# Altium footprint library Microcontroller megaAVR.PcbLib: 70 footprints (part 4 of 5)
Each footprint in its own frame and in the unit in brackets; x right, y up, seen from the top. Pads: shape width x height; smd on the part's side, far side on the other; paste and mask are expansions set on the pad; w line width, h text height; cw(c..) or ccw(c..) is an arc to the next point about the centre after c.
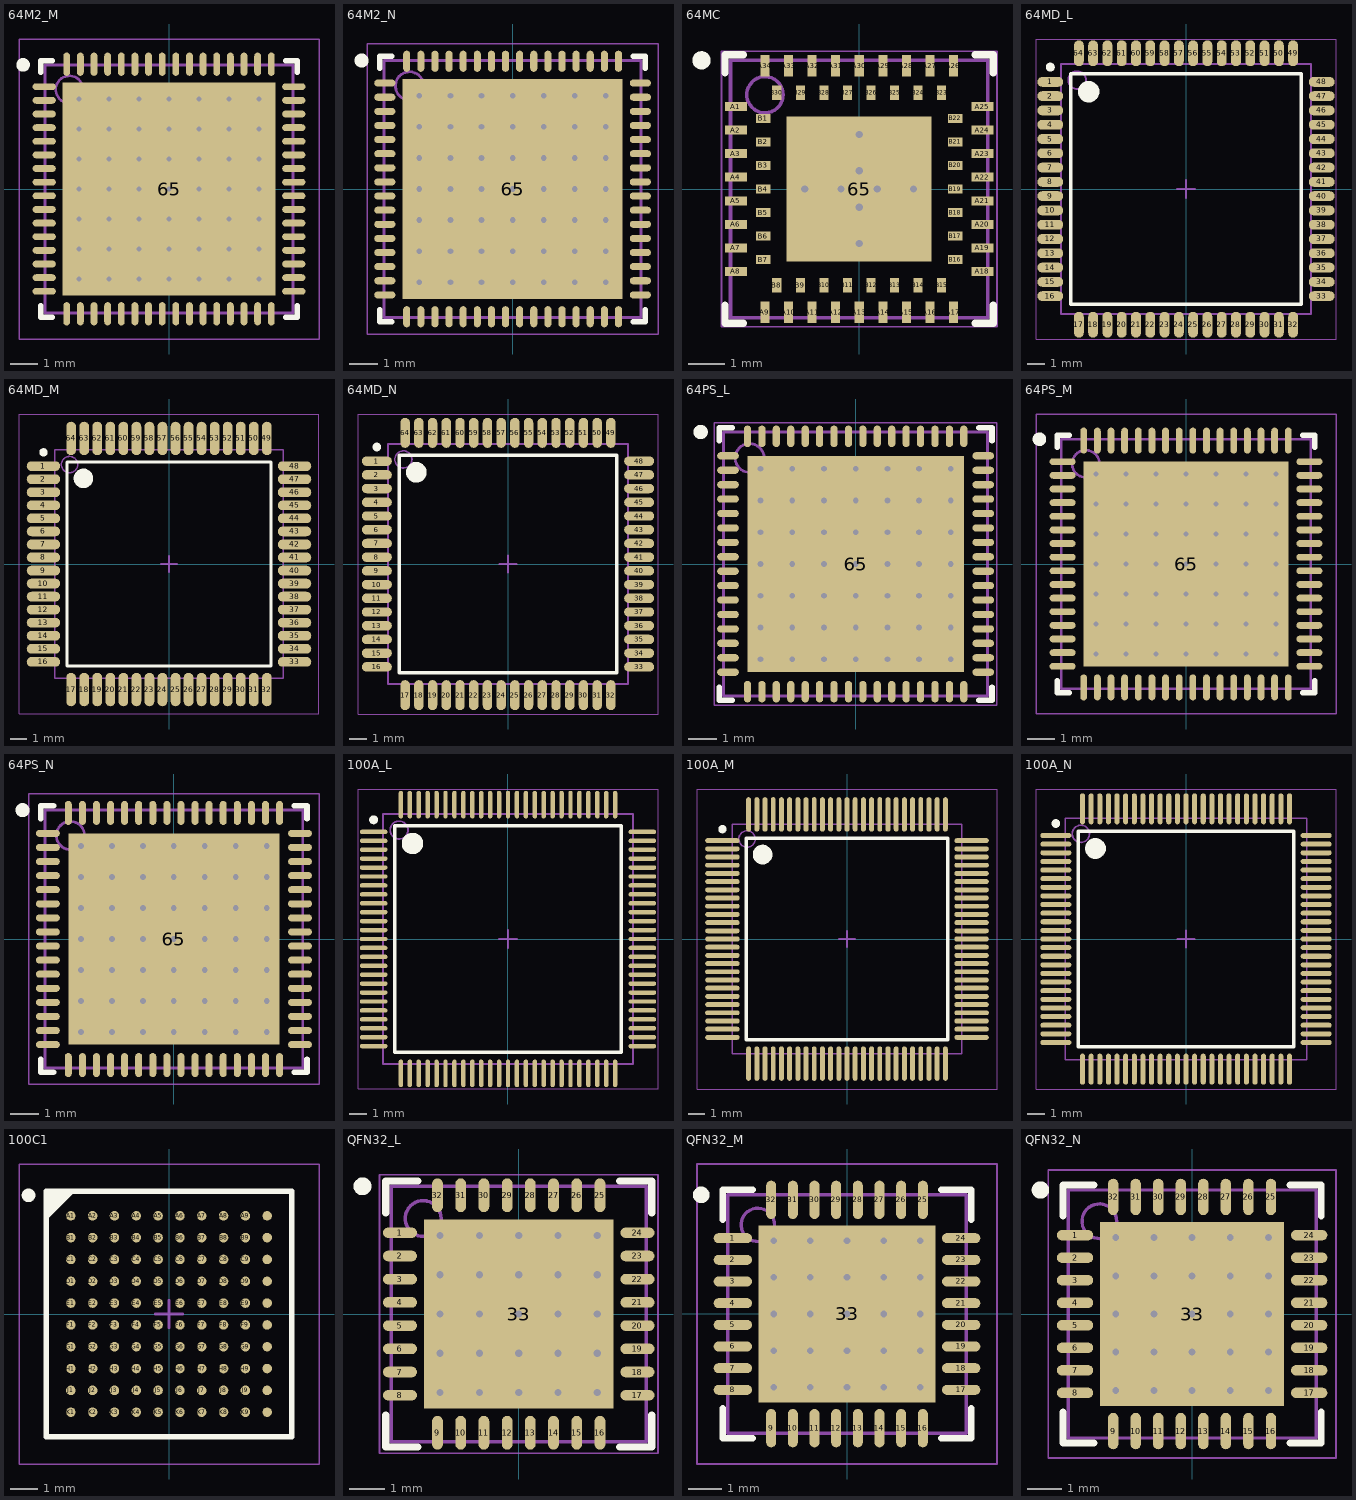
[diagram p3: the footprints below, top view; thin cyan lines are the x and y axes]

## 64M2_M [mm] "QFN, 64-Leads, Body 9x9mm, Pitch 0.5mm, Thermal Pad 7.8x7.8mm, IPC Low Density"
height 1
pads (65):
  oval 0.85x0.25 smd: 1(-4.575,3.75) 2(-4.575,3.25) 3(-4.575,2.75) 4(-4.575,2.25) 5(-4.575,1.75) 6(-4.575,1.25) 7(-4.575,0.75) 8(-4.575,0.25) 9(-4.575,-0.25) 10(-4.575,-0.75) 11(-4.575,-1.25) 12(-4.575,-1.75) 13(-4.575,-2.25) 14(-4.575,-2.75) 15(-4.575,-3.25) 16(-4.575,-3.75) 33(4.575,-3.75) 34(4.575,-3.25) 35(4.575,-2.75) 36(4.575,-2.25) 37(4.575,-1.75) 38(4.575,-1.25) 39(4.575,-0.75) 40(4.575,-0.25) 41(4.575,0.25) 42(4.575,0.75) 43(4.575,1.25) 44(4.575,1.75) 45(4.575,2.25) 46(4.575,2.75) 47(4.575,3.25) 48(4.575,3.75)
  oval 0.25x0.85 smd: 17(-3.75,-4.575) 18(-3.25,-4.575) 19(-2.75,-4.575) 20(-2.25,-4.575) 21(-1.75,-4.575) 22(-1.25,-4.575) 23(-0.75,-4.575) 24(-0.25,-4.575) 25(0.25,-4.575) 26(0.75,-4.575) 27(1.25,-4.575) 28(1.75,-4.575) 29(2.25,-4.575) 30(2.75,-4.575) 31(3.25,-4.575) 32(3.75,-4.575) 49(3.75,4.575) 50(3.25,4.575) 51(2.75,4.575) 52(2.25,4.575) 53(1.75,4.575) 54(1.25,4.575) 55(0.75,4.575) 56(0.25,4.575) 57(-0.25,4.575) 58(-0.75,4.575) 59(-1.25,4.575) 60(-1.75,4.575) 61(-2.25,4.575) 62(-2.75,4.575) 63(-3.25,4.575) 64(-3.75,4.575)
  rect 7.8x7.8 smd: 65(0,0)
via -3.3,3.3 diameter 0.5 hole 0.2
via -2.2,3.3 diameter 0.5 hole 0.2
via -1.1,3.3 diameter 0.5 hole 0.2
via 0,3.3 diameter 0.5 hole 0.2
via 1.1,3.3 diameter 0.5 hole 0.2
via 2.2,3.3 diameter 0.5 hole 0.2
via 3.3,3.3 diameter 0.5 hole 0.2
via -3.3,2.2 diameter 0.5 hole 0.2
via -2.2,2.2 diameter 0.5 hole 0.2
via -1.1,2.2 diameter 0.5 hole 0.2
via 0,2.2 diameter 0.5 hole 0.2
via 1.1,2.2 diameter 0.5 hole 0.2
via 2.2,2.2 diameter 0.5 hole 0.2
via 3.3,2.2 diameter 0.5 hole 0.2
via -3.3,1.1 diameter 0.5 hole 0.2
via -2.2,1.1 diameter 0.5 hole 0.2
via -1.1,1.1 diameter 0.5 hole 0.2
via 0,1.1 diameter 0.5 hole 0.2
via 1.1,1.1 diameter 0.5 hole 0.2
via 2.2,1.1 diameter 0.5 hole 0.2
via 3.3,1.1 diameter 0.5 hole 0.2
via -3.3,0 diameter 0.5 hole 0.2
via -2.2,0 diameter 0.5 hole 0.2
via -1.1,0 diameter 0.5 hole 0.2
via 0,0 diameter 0.5 hole 0.2
via 1.1,0 diameter 0.5 hole 0.2
via 2.2,0 diameter 0.5 hole 0.2
via 3.3,0 diameter 0.5 hole 0.2
via -3.3,-1.1 diameter 0.5 hole 0.2
via -2.2,-1.1 diameter 0.5 hole 0.2
via -1.1,-1.1 diameter 0.5 hole 0.2
via 0,-1.1 diameter 0.5 hole 0.2
via 1.1,-1.1 diameter 0.5 hole 0.2
via 2.2,-1.1 diameter 0.5 hole 0.2
via 3.3,-1.1 diameter 0.5 hole 0.2
via -3.3,-2.2 diameter 0.5 hole 0.2
via -2.2,-2.2 diameter 0.5 hole 0.2
via -1.1,-2.2 diameter 0.5 hole 0.2
via 0,-2.2 diameter 0.5 hole 0.2
via 1.1,-2.2 diameter 0.5 hole 0.2
via 2.2,-2.2 diameter 0.5 hole 0.2
via 3.3,-2.2 diameter 0.5 hole 0.2
via -3.3,-3.3 diameter 0.5 hole 0.2
via -2.2,-3.3 diameter 0.5 hole 0.2
via -1.1,-3.3 diameter 0.5 hole 0.2
via 0,-3.3 diameter 0.5 hole 0.2
via 1.1,-3.3 diameter 0.5 hole 0.2
via 2.2,-3.3 diameter 0.5 hole 0.2
via 3.3,-3.3 diameter 0.5 hole 0.2
Top Overlay:
  circle w0.25: c-5.35,4.55 r0.125
  lines w0.2: -4.7,-4.275 -4.7,-4.7 -4.275,-4.7 ; -4.7,4.275 -4.7,4.7 -4.275,4.7 ; 4.275,-4.7 4.7,-4.7 4.7,-4.275 ; 4.275,4.7 4.7,4.7 4.7,4.275
Mechanical 13:
  circle w0.1: c-3.65,3.65 r0.5
  lines w0.1: -4.55,-4.55 -4.55,4.55 4.55,4.55 4.55,-4.55 -4.55,-4.55
Mechanical 15:
  lines w0.05: -5.5,-5.5 -5.5,5.5 5.5,5.5 5.5,-5.5 -5.5,-5.5
  lines w0.1: -0.5,0 0.5,0 ; 0,-0.5 0,0.5
3D body: height 1, standoff 0, extent -4.55,-4.55 4.55,4.55

## 64M2_N [mm] "QFN, 64-Leads, Body 9x9mm, Pitch 0.5mm, Thermal Pad 7.8x7.8mm, IPC Medium Density"
height 1
pads (65):
  oval 0.75x0.25 smd: 1(-4.525,3.75) 2(-4.525,3.25) 3(-4.525,2.75) 4(-4.525,2.25) 5(-4.525,1.75) 6(-4.525,1.25) 7(-4.525,0.75) 8(-4.525,0.25) 9(-4.525,-0.25) 10(-4.525,-0.75) 11(-4.525,-1.25) 12(-4.525,-1.75) 13(-4.525,-2.25) 14(-4.525,-2.75) 15(-4.525,-3.25) 16(-4.525,-3.75) 33(4.525,-3.75) 34(4.525,-3.25) 35(4.525,-2.75) 36(4.525,-2.25) 37(4.525,-1.75) 38(4.525,-1.25) 39(4.525,-0.75) 40(4.525,-0.25) 41(4.525,0.25) 42(4.525,0.75) 43(4.525,1.25) 44(4.525,1.75) 45(4.525,2.25) 46(4.525,2.75) 47(4.525,3.25) 48(4.525,3.75)
  oval 0.25x0.75 smd: 17(-3.75,-4.525) 18(-3.25,-4.525) 19(-2.75,-4.525) 20(-2.25,-4.525) 21(-1.75,-4.525) 22(-1.25,-4.525) 23(-0.75,-4.525) 24(-0.25,-4.525) 25(0.25,-4.525) 26(0.75,-4.525) 27(1.25,-4.525) 28(1.75,-4.525) 29(2.25,-4.525) 30(2.75,-4.525) 31(3.25,-4.525) 32(3.75,-4.525) 49(3.75,4.525) 50(3.25,4.525) 51(2.75,4.525) 52(2.25,4.525) 53(1.75,4.525) 54(1.25,4.525) 55(0.75,4.525) 56(0.25,4.525) 57(-0.25,4.525) 58(-0.75,4.525) 59(-1.25,4.525) 60(-1.75,4.525) 61(-2.25,4.525) 62(-2.75,4.525) 63(-3.25,4.525) 64(-3.75,4.525)
  rect 7.8x7.8 smd: 65(0,0)
via -3.3,3.3 diameter 0.5 hole 0.2
via -2.2,3.3 diameter 0.5 hole 0.2
via -1.1,3.3 diameter 0.5 hole 0.2
via 0,3.3 diameter 0.5 hole 0.2
via 1.1,3.3 diameter 0.5 hole 0.2
via 2.2,3.3 diameter 0.5 hole 0.2
via 3.3,3.3 diameter 0.5 hole 0.2
via -3.3,2.2 diameter 0.5 hole 0.2
via -2.2,2.2 diameter 0.5 hole 0.2
via -1.1,2.2 diameter 0.5 hole 0.2
via 0,2.2 diameter 0.5 hole 0.2
via 1.1,2.2 diameter 0.5 hole 0.2
via 2.2,2.2 diameter 0.5 hole 0.2
via 3.3,2.2 diameter 0.5 hole 0.2
via -3.3,1.1 diameter 0.5 hole 0.2
via -2.2,1.1 diameter 0.5 hole 0.2
via -1.1,1.1 diameter 0.5 hole 0.2
via 0,1.1 diameter 0.5 hole 0.2
via 1.1,1.1 diameter 0.5 hole 0.2
via 2.2,1.1 diameter 0.5 hole 0.2
via 3.3,1.1 diameter 0.5 hole 0.2
via -3.3,0 diameter 0.5 hole 0.2
via -2.2,0 diameter 0.5 hole 0.2
via -1.1,0 diameter 0.5 hole 0.2
via 0,0 diameter 0.5 hole 0.2
via 1.1,0 diameter 0.5 hole 0.2
via 2.2,0 diameter 0.5 hole 0.2
via 3.3,0 diameter 0.5 hole 0.2
via -3.3,-1.1 diameter 0.5 hole 0.2
via -2.2,-1.1 diameter 0.5 hole 0.2
via -1.1,-1.1 diameter 0.5 hole 0.2
via 0,-1.1 diameter 0.5 hole 0.2
via 1.1,-1.1 diameter 0.5 hole 0.2
via 2.2,-1.1 diameter 0.5 hole 0.2
via 3.3,-1.1 diameter 0.5 hole 0.2
via -3.3,-2.2 diameter 0.5 hole 0.2
via -2.2,-2.2 diameter 0.5 hole 0.2
via -1.1,-2.2 diameter 0.5 hole 0.2
via 0,-2.2 diameter 0.5 hole 0.2
via 1.1,-2.2 diameter 0.5 hole 0.2
via 2.2,-2.2 diameter 0.5 hole 0.2
via 3.3,-2.2 diameter 0.5 hole 0.2
via -3.3,-3.3 diameter 0.5 hole 0.2
via -2.2,-3.3 diameter 0.5 hole 0.2
via -1.1,-3.3 diameter 0.5 hole 0.2
via 0,-3.3 diameter 0.5 hole 0.2
via 1.1,-3.3 diameter 0.5 hole 0.2
via 2.2,-3.3 diameter 0.5 hole 0.2
via 3.3,-3.3 diameter 0.5 hole 0.2
Top Overlay:
  circle w0.25: c-5.35,4.55 r0.125
  lines w0.2: -4.7,-4.275 -4.7,-4.7 -4.275,-4.7 ; -4.7,4.275 -4.7,4.7 -4.275,4.7 ; 4.275,-4.7 4.7,-4.7 4.7,-4.275 ; 4.275,4.7 4.7,4.7 4.7,4.275
Mechanical 13:
  circle w0.1: c-3.65,3.65 r0.5
  lines w0.1: -4.55,-4.55 -4.55,4.55 4.55,4.55 4.55,-4.55 -4.55,-4.55
Mechanical 15:
  lines w0.05: -5.15,-5.15 -5.15,5.15 5.15,5.15 5.15,-5.15 -5.15,-5.15
  lines w0.1: -0.5,0 0.5,0 ; 0,-0.5 0,0.5
3D body: height 1, standoff 0, extent -4.55,-4.55 4.55,4.55

## 64MC [mm] "QFN, 64-Leads, 2-Rows Staggered, Body 7x7mm, Pitch 0.65mm, Thermal Pad 4x4mm"
height 1
pads (65):
  rect 4x4 smd paste-2 mask+0.051: 65(0,0)
  rect 0.6x0.25 smd paste-0.125 mask+0.051: A1(-3.4,2.275) A2(-3.4,1.625) A3(-3.4,0.975) A4(-3.4,0.325) A5(-3.4,-0.325) A6(-3.4,-0.975) A7(-3.4,-1.625) A8(-3.4,-2.275) A18(3.4,-2.275) A19(3.4,-1.625) A20(3.4,-0.975) A21(3.4,-0.325) A22(3.4,0.325) A23(3.4,0.975) A24(3.4,1.625) A25(3.4,2.275)
  rect 0.25x0.6 smd paste-0.125 mask+0.051: A9(-2.6,-3.4) A10(-1.95,-3.4) A11(-1.3,-3.4) A12(-0.65,-3.4) A13(0,-3.4) A14(0.65,-3.4) A15(1.3,-3.4) A16(1.95,-3.4) A17(2.6,-3.4) A26(2.6,3.4) A27(1.95,3.4) A28(1.3,3.4) A29(0.65,3.4) A30(0,3.4) A31(-0.65,3.4) A32(-1.3,3.4) A33(-1.95,3.4) A34(-2.6,3.4)
  rect 0.4x0.25 smd mask+0.051: B1(-2.65,1.95) B2(-2.65,1.3) B3(-2.65,0.65) B4(-2.65,0) B5(-2.65,-0.65) B6(-2.65,-1.3) B7(-2.65,-1.95) B16(2.65,-1.95) B17(2.65,-1.3) B18(2.65,-0.65) B19(2.65,0) B20(2.65,0.65) B21(2.65,1.3) B22(2.65,1.95)
  rect 0.25x0.4 smd mask+0.051: B8(-2.275,-2.65) B9(-1.625,-2.65) B10(-0.975,-2.65) B11(-0.325,-2.65) B12(0.325,-2.65) B13(0.975,-2.65) B14(1.625,-2.65) B15(2.275,-2.65) B23(2.275,2.65) B24(1.625,2.65) B25(0.975,2.65) B26(0.325,2.65) B27(-0.325,2.65) B28(-0.975,2.65) B29(-1.625,2.65) B30(-2.275,2.65)
via 0,0.5 diameter 0.5 hole 0.2
via 0,-0.5 diameter 0.5 hole 0.2
via 0.5,0 diameter 0.5 hole 0.2
via -0.5,0 diameter 0.5 hole 0.2
via 1.5,0 diameter 0.5 hole 0.2
via 0,1.5 diameter 0.5 hole 0.2
via 0,-1.5 diameter 0.5 hole 0.2
via -1.5,0 diameter 0.5 hole 0.2
Top Overlay:
  circle w0.25: c-4.35,3.55 r0.125
  lines w0.2: -3.7,-3.2 -3.7,-3.7 -3.2,-3.7 ; -3.7,3.2 -3.7,3.7 -3.2,3.7 ; 3.2,-3.7 3.7,-3.7 3.7,-3.2 ; 3.2,3.7 3.7,3.7 3.7,3.2
Top Paste:
  region: 2.475,3.8 2.475,3.1 2.725,3.1 2.725,3.8
  region: 2.725,-3.8 2.725,-3.1 2.475,-3.1 2.475,-3.8
  rectangle: 0.1,-1.9 1.9,-0.1
  region: -0.1,-0.1 -1.9,-0.1 -1.9,-1.9 -0.1,-1.9
  region: -0.1,1.9 -1.9,1.9 -1.9,0.1 -0.1,0.1
  rectangle: 0.1,0.1 1.9,1.9
  rectangle: -3.8,2.15 -3.1,2.4
  rectangle: -3.8,1.5 -3.1,1.75
  rectangle: -3.8,0.85 -3.1,1.1
  rectangle: -3.8,0.2 -3.1,0.45
  rectangle: -3.8,-0.45 -3.1,-0.2
  rectangle: -3.8,-1.1 -3.1,-0.85
  rectangle: -3.8,-1.75 -3.1,-1.5
  rectangle: -3.8,-2.4 -3.1,-2.15
  region: 2.075,-3.8 2.075,-3.1 1.825,-3.1 1.825,-3.8
  region: 1.425,-3.8 1.425,-3.1 1.175,-3.1 1.175,-3.8
  region: 0.775,-3.8 0.775,-3.1 0.525,-3.1 0.525,-3.8
  region: 0.125,-3.8 0.125,-3.1 -0.125,-3.1 -0.125,-3.8
  region: -0.525,-3.8 -0.525,-3.1 -0.775,-3.1 -0.775,-3.8
  region: -1.175,-3.8 -1.175,-3.1 -1.425,-3.1 -1.425,-3.8
  region: -1.825,-3.8 -1.825,-3.1 -2.075,-3.1 -2.075,-3.8
  region: -2.475,-3.8 -2.475,-3.1 -2.725,-3.1 -2.725,-3.8
  region: 3.8,-2.15 3.1,-2.15 3.1,-2.4 3.8,-2.4
  region: 3.8,-1.5 3.1,-1.5 3.1,-1.75 3.8,-1.75
  region: 3.8,-0.85 3.1,-0.85 3.1,-1.1 3.8,-1.1
  region: 3.8,-0.2 3.1,-0.2 3.1,-0.45 3.8,-0.45
  region: 3.8,0.45 3.1,0.45 3.1,0.2 3.8,0.2
  region: 3.8,1.1 3.1,1.1 3.1,0.85 3.8,0.85
  region: 3.8,1.75 3.1,1.75 3.1,1.5 3.8,1.5
  region: 3.8,2.4 3.1,2.4 3.1,2.15 3.8,2.15
  region: 1.825,3.8 1.825,3.1 2.075,3.1 2.075,3.8
  region: 1.175,3.8 1.175,3.1 1.425,3.1 1.425,3.8
  region: 0.525,3.8 0.525,3.1 0.775,3.1 0.775,3.8
  region: -0.125,3.8 -0.125,3.1 0.125,3.1 0.125,3.8
  region: -0.775,3.8 -0.775,3.1 -0.525,3.1 -0.525,3.8
  region: -1.425,3.8 -1.425,3.1 -1.175,3.1 -1.175,3.8
  region: -2.075,3.8 -2.075,3.1 -1.825,3.1 -1.825,3.8
  region: -2.725,3.8 -2.725,3.1 -2.475,3.1 -2.475,3.8
Mechanical 13:
  circle w0.1: c-2.6,2.6 r0.5
  lines w0.1: -3.55,-3.55 3.55,-3.55 3.55,3.55 -3.55,3.55 -3.55,-3.55
Mechanical 15:
  lines w0.05: -3.8,-3.8 3.8,-3.8 3.8,3.8 -3.8,3.8 -3.8,-3.8
  lines w0.1: -0.5,0 0.5,0 ; 0,-0.5 0,0.5
3D body: height 1, standoff 0, extent -3.55,-3.55 3.55,3.55

## 64MD_L [mm] "Thin QFP, 64-Leads, Body 14x14mm, Pitch 0.8mm, IPC High Density"
height 1.2
pads (64):
  oval 1.45x0.55 smd: 1(-7.6,6) 2(-7.6,5.2) 3(-7.6,4.4) 4(-7.6,3.6) 5(-7.6,2.8) 6(-7.6,2) 7(-7.6,1.2) 8(-7.6,0.4) 9(-7.6,-0.4) 10(-7.6,-1.2) 11(-7.6,-2) 12(-7.6,-2.8) 13(-7.6,-3.6) 14(-7.6,-4.4) 15(-7.6,-5.2) 16(-7.6,-6) 33(7.6,-6) 34(7.6,-5.2) 35(7.6,-4.4) 36(7.6,-3.6) 37(7.6,-2.8) 38(7.6,-2) 39(7.6,-1.2) 40(7.6,-0.4) 41(7.6,0.4) 42(7.6,1.2) 43(7.6,2) 44(7.6,2.8) 45(7.6,3.6) 46(7.6,4.4) 47(7.6,5.2) 48(7.6,6)
  oval 0.55x1.45 smd: 17(-6,-7.6) 18(-5.2,-7.6) 19(-4.4,-7.6) 20(-3.6,-7.6) 21(-2.8,-7.6) 22(-2,-7.6) 23(-1.2,-7.6) 24(-0.4,-7.6) 25(0.4,-7.6) 26(1.2,-7.6) 27(2,-7.6) 28(2.8,-7.6) 29(3.6,-7.6) 30(4.4,-7.6) 31(5.2,-7.6) 32(6,-7.6) 49(6,7.6) 50(5.2,7.6) 51(4.4,7.6) 52(3.6,7.6) 53(2.8,7.6) 54(2,7.6) 55(1.2,7.6) 56(0.4,7.6) 57(-0.4,7.6) 58(-1.2,7.6) 59(-2,7.6) 60(-2.8,7.6) 61(-3.6,7.6) 62(-4.4,7.6) 63(-5.2,7.6) 64(-6,7.6)
Top Overlay:
  circle w0.25: c-7.6,6.825 r0.125
  circle w0.6: c-5.45,5.45 r0.3
  lines w0.2: -6.45,-6.45 -6.45,6.45 6.45,6.45 6.45,-6.45 -6.45,-6.45
Mechanical 13:
  circle w0.1: c-6.1,6.1 r0.5
  lines w0.1: -7,-7 -7,7 7,7 7,-7 -7,-7
Mechanical 15:
  lines w0.05: -8.4,-8.4 -8.4,8.4 8.4,8.4 8.4,-8.4 -8.4,-8.4
  lines w0.1: -0.5,0 0.5,0 ; 0,-0.5 0,0.5
3D body: height 1.2, standoff 0, extent -7,-7 7,7

## 64MD_M [mm] "Thin QFP, 64-Leads, Body 14x14mm, Pitch 0.8mm, IPC Low Density"
height 1.2
pads (64):
  oval 2.05x0.6 smd: 1(-7.7,6) 2(-7.7,5.2) 3(-7.7,4.4) 4(-7.7,3.6) 5(-7.7,2.8) 6(-7.7,2) 7(-7.7,1.2) 8(-7.7,0.4) 9(-7.7,-0.4) 10(-7.7,-1.2) 11(-7.7,-2) 12(-7.7,-2.8) 13(-7.7,-3.6) 14(-7.7,-4.4) 15(-7.7,-5.2) 16(-7.7,-6) 33(7.7,-6) 34(7.7,-5.2) 35(7.7,-4.4) 36(7.7,-3.6) 37(7.7,-2.8) 38(7.7,-2) 39(7.7,-1.2) 40(7.7,-0.4) 41(7.7,0.4) 42(7.7,1.2) 43(7.7,2) 44(7.7,2.8) 45(7.7,3.6) 46(7.7,4.4) 47(7.7,5.2) 48(7.7,6)
  oval 0.6x2.05 smd: 17(-6,-7.7) 18(-5.2,-7.7) 19(-4.4,-7.7) 20(-3.6,-7.7) 21(-2.8,-7.7) 22(-2,-7.7) 23(-1.2,-7.7) 24(-0.4,-7.7) 25(0.4,-7.7) 26(1.2,-7.7) 27(2,-7.7) 28(2.8,-7.7) 29(3.6,-7.7) 30(4.4,-7.7) 31(5.2,-7.7) 32(6,-7.7) 49(6,7.7) 50(5.2,7.7) 51(4.4,7.7) 52(3.6,7.7) 53(2.8,7.7) 54(2,7.7) 55(1.2,7.7) 56(0.4,7.7) 57(-0.4,7.7) 58(-1.2,7.7) 59(-2,7.7) 60(-2.8,7.7) 61(-3.6,7.7) 62(-4.4,7.7) 63(-5.2,7.7) 64(-6,7.7)
Top Overlay:
  circle w0.25: c-7.7,6.85 r0.125
  circle w0.6: c-5.25,5.25 r0.3
  lines w0.2: -6.25,-6.25 -6.25,6.25 6.25,6.25 6.25,-6.25 -6.25,-6.25
Mechanical 13:
  circle w0.1: c-6.1,6.1 r0.5
  lines w0.1: -7,-7 -7,7 7,7 7,-7 -7,-7
Mechanical 15:
  lines w0.05: -9.2,-9.2 -9.2,9.2 9.2,9.2 9.2,-9.2 -9.2,-9.2
  lines w0.1: -0.5,0 0.5,0 ; 0,-0.5 0,0.5
3D body: height 1.2, standoff 0, extent -7,-7 7,7

## 64MD_N [mm] "Thin QFP, 64-Leads, Body 14x14mm, Pitch 0.8mm, IPC Medium Density"
height 1.2
pads (64):
  oval 1.75x0.55 smd: 1(-7.65,6) 2(-7.65,5.2) 3(-7.65,4.4) 4(-7.65,3.6) 5(-7.65,2.8) 6(-7.65,2) 7(-7.65,1.2) 8(-7.65,0.4) 9(-7.65,-0.4) 10(-7.65,-1.2) 11(-7.65,-2) 12(-7.65,-2.8) 13(-7.65,-3.6) 14(-7.65,-4.4) 15(-7.65,-5.2) 16(-7.65,-6) 33(7.65,-6) 34(7.65,-5.2) 35(7.65,-4.4) 36(7.65,-3.6) 37(7.65,-2.8) 38(7.65,-2) 39(7.65,-1.2) 40(7.65,-0.4) 41(7.65,0.4) 42(7.65,1.2) 43(7.65,2) 44(7.65,2.8) 45(7.65,3.6) 46(7.65,4.4) 47(7.65,5.2) 48(7.65,6)
  oval 0.55x1.75 smd: 17(-6,-7.65) 18(-5.2,-7.65) 19(-4.4,-7.65) 20(-3.6,-7.65) 21(-2.8,-7.65) 22(-2,-7.65) 23(-1.2,-7.65) 24(-0.4,-7.65) 25(0.4,-7.65) 26(1.2,-7.65) 27(2,-7.65) 28(2.8,-7.65) 29(3.6,-7.65) 30(4.4,-7.65) 31(5.2,-7.65) 32(6,-7.65) 49(6,7.65) 50(5.2,7.65) 51(4.4,7.65) 52(3.6,7.65) 53(2.8,7.65) 54(2,7.65) 55(1.2,7.65) 56(0.4,7.65) 57(-0.4,7.65) 58(-1.2,7.65) 59(-2,7.65) 60(-2.8,7.65) 61(-3.6,7.65) 62(-4.4,7.65) 63(-5.2,7.65) 64(-6,7.65)
Top Overlay:
  circle w0.6: c-5.35,5.35 r0.3
  circle w0.25: c-7.65,6.825 r0.125
  lines w0.2: -6.35,-6.35 6.35,-6.35 6.35,6.35 -6.35,6.35 -6.35,-6.35
Mechanical 13:
  circle w0.1: c-6.1,6.1 r0.5
  lines w0.1: -7,-7 7,-7 7,7 -7,7 -7,-7
Mechanical 15:
  lines w0.05: -8.75,-8.75 8.75,-8.75 8.75,8.75 -8.75,8.75 -8.75,-8.75
  lines w0.1: -0.5,0 0.5,0 ; 0,-0.5 0,0.5
3D body: height 1.2, standoff 0, extent -7,-7 7,7

## 64PS_L [mm] "QFN, 64-Leads, Body 9x9mm, Pitch 0.5mm, Thermal Pad 7.5x7.5mm, IPC High Density"
height 1
pads (65):
  oval 0.75x0.25 smd: 1(-4.425,3.75) 2(-4.425,3.25) 3(-4.425,2.75) 4(-4.425,2.25) 5(-4.425,1.75) 6(-4.425,1.25) 7(-4.425,0.75) 8(-4.425,0.25) 9(-4.425,-0.25) 10(-4.425,-0.75) 11(-4.425,-1.25) 12(-4.425,-1.75) 13(-4.425,-2.25) 14(-4.425,-2.75) 15(-4.425,-3.25) 16(-4.425,-3.75) 33(4.425,-3.75) 34(4.425,-3.25) 35(4.425,-2.75) 36(4.425,-2.25) 37(4.425,-1.75) 38(4.425,-1.25) 39(4.425,-0.75) 40(4.425,-0.25) 41(4.425,0.25) 42(4.425,0.75) 43(4.425,1.25) 44(4.425,1.75) 45(4.425,2.25) 46(4.425,2.75) 47(4.425,3.25) 48(4.425,3.75)
  oval 0.25x0.75 smd: 17(-3.75,-4.425) 18(-3.25,-4.425) 19(-2.75,-4.425) 20(-2.25,-4.425) 21(-1.75,-4.425) 22(-1.25,-4.425) 23(-0.75,-4.425) 24(-0.25,-4.425) 25(0.25,-4.425) 26(0.75,-4.425) 27(1.25,-4.425) 28(1.75,-4.425) 29(2.25,-4.425) 30(2.75,-4.425) 31(3.25,-4.425) 32(3.75,-4.425) 49(3.75,4.425) 50(3.25,4.425) 51(2.75,4.425) 52(2.25,4.425) 53(1.75,4.425) 54(1.25,4.425) 55(0.75,4.425) 56(0.25,4.425) 57(-0.25,4.425) 58(-0.75,4.425) 59(-1.25,4.425) 60(-1.75,4.425) 61(-2.25,4.425) 62(-2.75,4.425) 63(-3.25,4.425) 64(-3.75,4.425)
  rect 7.5x7.5 smd: 65(0,0)
via -3.3,3.3 diameter 0.5 hole 0.2
via -2.2,3.3 diameter 0.5 hole 0.2
via -1.1,3.3 diameter 0.5 hole 0.2
via 0,3.3 diameter 0.5 hole 0.2
via 1.1,3.3 diameter 0.5 hole 0.2
via 2.2,3.3 diameter 0.5 hole 0.2
via 3.3,3.3 diameter 0.5 hole 0.2
via -3.3,2.2 diameter 0.5 hole 0.2
via -2.2,2.2 diameter 0.5 hole 0.2
via -1.1,2.2 diameter 0.5 hole 0.2
via 0,2.2 diameter 0.5 hole 0.2
via 1.1,2.2 diameter 0.5 hole 0.2
via 2.2,2.2 diameter 0.5 hole 0.2
via 3.3,2.2 diameter 0.5 hole 0.2
via -3.3,1.1 diameter 0.5 hole 0.2
via -2.2,1.1 diameter 0.5 hole 0.2
via -1.1,1.1 diameter 0.5 hole 0.2
via 0,1.1 diameter 0.5 hole 0.2
via 1.1,1.1 diameter 0.5 hole 0.2
via 2.2,1.1 diameter 0.5 hole 0.2
via 3.3,1.1 diameter 0.5 hole 0.2
via -3.3,0 diameter 0.5 hole 0.2
via -2.2,0 diameter 0.5 hole 0.2
via -1.1,0 diameter 0.5 hole 0.2
via 0,0 diameter 0.5 hole 0.2
via 1.1,0 diameter 0.5 hole 0.2
via 2.2,0 diameter 0.5 hole 0.2
via 3.3,0 diameter 0.5 hole 0.2
via -3.3,-1.1 diameter 0.5 hole 0.2
via -2.2,-1.1 diameter 0.5 hole 0.2
via -1.1,-1.1 diameter 0.5 hole 0.2
via 0,-1.1 diameter 0.5 hole 0.2
via 1.1,-1.1 diameter 0.5 hole 0.2
via 2.2,-1.1 diameter 0.5 hole 0.2
via 3.3,-1.1 diameter 0.5 hole 0.2
via -3.3,-2.2 diameter 0.5 hole 0.2
via -2.2,-2.2 diameter 0.5 hole 0.2
via -1.1,-2.2 diameter 0.5 hole 0.2
via 0,-2.2 diameter 0.5 hole 0.2
via 1.1,-2.2 diameter 0.5 hole 0.2
via 2.2,-2.2 diameter 0.5 hole 0.2
via 3.3,-2.2 diameter 0.5 hole 0.2
via -3.3,-3.3 diameter 0.5 hole 0.2
via -2.2,-3.3 diameter 0.5 hole 0.2
via -1.1,-3.3 diameter 0.5 hole 0.2
via 0,-3.3 diameter 0.5 hole 0.2
via 1.1,-3.3 diameter 0.5 hole 0.2
via 2.2,-3.3 diameter 0.5 hole 0.2
via 3.3,-3.3 diameter 0.5 hole 0.2
Top Overlay:
  circle w0.25: c-5.375,4.575 r0.125
  lines w0.2: -4.725,-4.275 -4.725,-4.725 -4.275,-4.725 ; -4.725,4.275 -4.725,4.725 -4.275,4.725 ; 4.275,-4.725 4.725,-4.725 4.725,-4.275 ; 4.275,4.725 4.725,4.725 4.725,4.275
Mechanical 13:
  circle w0.1: c-3.675,3.675 r0.5
  lines w0.1: -4.575,-4.575 -4.575,4.575 4.575,4.575 4.575,-4.575 -4.575,-4.575
Mechanical 15:
  lines w0.05: -4.9,-4.9 -4.9,4.9 4.9,4.9 4.9,-4.9 -4.9,-4.9
  lines w0.1: -0.5,0 0.5,0 ; 0,-0.5 0,0.5
3D body: height 1, standoff 0, extent -4.575,-4.575 4.575,4.575

## 64PS_M [mm] "QFN, 64-Leads, Body 9x9mm, Pitch 0.5mm, Thermal Pad 7.5x7.5mm, IPC Low Density"
height 1
pads (65):
  oval 0.95x0.25 smd: 1(-4.525,3.75) 2(-4.525,3.25) 3(-4.525,2.75) 4(-4.525,2.25) 5(-4.525,1.75) 6(-4.525,1.25) 7(-4.525,0.75) 8(-4.525,0.25) 9(-4.525,-0.25) 10(-4.525,-0.75) 11(-4.525,-1.25) 12(-4.525,-1.75) 13(-4.525,-2.25) 14(-4.525,-2.75) 15(-4.525,-3.25) 16(-4.525,-3.75) 33(4.525,-3.75) 34(4.525,-3.25) 35(4.525,-2.75) 36(4.525,-2.25) 37(4.525,-1.75) 38(4.525,-1.25) 39(4.525,-0.75) 40(4.525,-0.25) 41(4.525,0.25) 42(4.525,0.75) 43(4.525,1.25) 44(4.525,1.75) 45(4.525,2.25) 46(4.525,2.75) 47(4.525,3.25) 48(4.525,3.75)
  oval 0.25x0.95 smd: 17(-3.75,-4.525) 18(-3.25,-4.525) 19(-2.75,-4.525) 20(-2.25,-4.525) 21(-1.75,-4.525) 22(-1.25,-4.525) 23(-0.75,-4.525) 24(-0.25,-4.525) 25(0.25,-4.525) 26(0.75,-4.525) 27(1.25,-4.525) 28(1.75,-4.525) 29(2.25,-4.525) 30(2.75,-4.525) 31(3.25,-4.525) 32(3.75,-4.525) 49(3.75,4.525) 50(3.25,4.525) 51(2.75,4.525) 52(2.25,4.525) 53(1.75,4.525) 54(1.25,4.525) 55(0.75,4.525) 56(0.25,4.525) 57(-0.25,4.525) 58(-0.75,4.525) 59(-1.25,4.525) 60(-1.75,4.525) 61(-2.25,4.525) 62(-2.75,4.525) 63(-3.25,4.525) 64(-3.75,4.525)
  rect 7.5x7.5 smd: 65(0,0)
via -3.3,3.3 diameter 0.5 hole 0.2
via -2.2,3.3 diameter 0.5 hole 0.2
via -1.1,3.3 diameter 0.5 hole 0.2
via 0,3.3 diameter 0.5 hole 0.2
via 1.1,3.3 diameter 0.5 hole 0.2
via 2.2,3.3 diameter 0.5 hole 0.2
via 3.3,3.3 diameter 0.5 hole 0.2
via -3.3,2.2 diameter 0.5 hole 0.2
via -2.2,2.2 diameter 0.5 hole 0.2
via -1.1,2.2 diameter 0.5 hole 0.2
via 0,2.2 diameter 0.5 hole 0.2
via 1.1,2.2 diameter 0.5 hole 0.2
via 2.2,2.2 diameter 0.5 hole 0.2
via 3.3,2.2 diameter 0.5 hole 0.2
via -3.3,1.1 diameter 0.5 hole 0.2
via -2.2,1.1 diameter 0.5 hole 0.2
via -1.1,1.1 diameter 0.5 hole 0.2
via 0,1.1 diameter 0.5 hole 0.2
via 1.1,1.1 diameter 0.5 hole 0.2
via 2.2,1.1 diameter 0.5 hole 0.2
via 3.3,1.1 diameter 0.5 hole 0.2
via -3.3,0 diameter 0.5 hole 0.2
via -2.2,0 diameter 0.5 hole 0.2
via -1.1,0 diameter 0.5 hole 0.2
via 0,0 diameter 0.5 hole 0.2
via 1.1,0 diameter 0.5 hole 0.2
via 2.2,0 diameter 0.5 hole 0.2
via 3.3,0 diameter 0.5 hole 0.2
via -3.3,-1.1 diameter 0.5 hole 0.2
via -2.2,-1.1 diameter 0.5 hole 0.2
via -1.1,-1.1 diameter 0.5 hole 0.2
via 0,-1.1 diameter 0.5 hole 0.2
via 1.1,-1.1 diameter 0.5 hole 0.2
via 2.2,-1.1 diameter 0.5 hole 0.2
via 3.3,-1.1 diameter 0.5 hole 0.2
via -3.3,-2.2 diameter 0.5 hole 0.2
via -2.2,-2.2 diameter 0.5 hole 0.2
via -1.1,-2.2 diameter 0.5 hole 0.2
via 0,-2.2 diameter 0.5 hole 0.2
via 1.1,-2.2 diameter 0.5 hole 0.2
via 2.2,-2.2 diameter 0.5 hole 0.2
via 3.3,-2.2 diameter 0.5 hole 0.2
via -3.3,-3.3 diameter 0.5 hole 0.2
via -2.2,-3.3 diameter 0.5 hole 0.2
via -1.1,-3.3 diameter 0.5 hole 0.2
via 0,-3.3 diameter 0.5 hole 0.2
via 1.1,-3.3 diameter 0.5 hole 0.2
via 2.2,-3.3 diameter 0.5 hole 0.2
via 3.3,-3.3 diameter 0.5 hole 0.2
Top Overlay:
  circle w0.25: c-5.375,4.575 r0.125
  lines w0.2: -4.725,-4.275 -4.725,-4.725 -4.275,-4.725 ; -4.725,4.275 -4.725,4.725 -4.275,4.725 ; 4.275,-4.725 4.725,-4.725 4.725,-4.275 ; 4.275,4.725 4.725,4.725 4.725,4.275
Mechanical 13:
  circle w0.1: c-3.675,3.675 r0.5
  lines w0.1: -4.575,-4.575 -4.575,4.575 4.575,4.575 4.575,-4.575 -4.575,-4.575
Mechanical 15:
  lines w0.05: -5.5,-5.5 -5.5,5.5 5.5,5.5 5.5,-5.5 -5.5,-5.5
  lines w0.1: -0.5,0 0.5,0 ; 0,-0.5 0,0.5
3D body: height 1, standoff 0, extent -4.575,-4.575 4.575,4.575

## 64PS_N [mm] "QFN, 64-Leads, Body 9x9mm, Pitch 0.5mm, Thermal Pad 7.5x7.5mm, IPC Medium Density"
height 1
pads (65):
  oval 0.85x0.25 smd: 1(-4.475,3.75) 2(-4.475,3.25) 3(-4.475,2.75) 4(-4.475,2.25) 5(-4.475,1.75) 6(-4.475,1.25) 7(-4.475,0.75) 8(-4.475,0.25) 9(-4.475,-0.25) 10(-4.475,-0.75) 11(-4.475,-1.25) 12(-4.475,-1.75) 13(-4.475,-2.25) 14(-4.475,-2.75) 15(-4.475,-3.25) 16(-4.475,-3.75) 33(4.475,-3.75) 34(4.475,-3.25) 35(4.475,-2.75) 36(4.475,-2.25) 37(4.475,-1.75) 38(4.475,-1.25) 39(4.475,-0.75) 40(4.475,-0.25) 41(4.475,0.25) 42(4.475,0.75) 43(4.475,1.25) 44(4.475,1.75) 45(4.475,2.25) 46(4.475,2.75) 47(4.475,3.25) 48(4.475,3.75)
  oval 0.25x0.85 smd: 17(-3.75,-4.475) 18(-3.25,-4.475) 19(-2.75,-4.475) 20(-2.25,-4.475) 21(-1.75,-4.475) 22(-1.25,-4.475) 23(-0.75,-4.475) 24(-0.25,-4.475) 25(0.25,-4.475) 26(0.75,-4.475) 27(1.25,-4.475) 28(1.75,-4.475) 29(2.25,-4.475) 30(2.75,-4.475) 31(3.25,-4.475) 32(3.75,-4.475) 49(3.75,4.475) 50(3.25,4.475) 51(2.75,4.475) 52(2.25,4.475) 53(1.75,4.475) 54(1.25,4.475) 55(0.75,4.475) 56(0.25,4.475) 57(-0.25,4.475) 58(-0.75,4.475) 59(-1.25,4.475) 60(-1.75,4.475) 61(-2.25,4.475) 62(-2.75,4.475) 63(-3.25,4.475) 64(-3.75,4.475)
  rect 7.5x7.5 smd: 65(0,0)
via -3.3,3.3 diameter 0.5 hole 0.2
via -2.2,3.3 diameter 0.5 hole 0.2
via -1.1,3.3 diameter 0.5 hole 0.2
via 0,3.3 diameter 0.5 hole 0.2
via 1.1,3.3 diameter 0.5 hole 0.2
via 2.2,3.3 diameter 0.5 hole 0.2
via 3.3,3.3 diameter 0.5 hole 0.2
via -3.3,2.2 diameter 0.5 hole 0.2
via -2.2,2.2 diameter 0.5 hole 0.2
via -1.1,2.2 diameter 0.5 hole 0.2
via 0,2.2 diameter 0.5 hole 0.2
via 1.1,2.2 diameter 0.5 hole 0.2
via 2.2,2.2 diameter 0.5 hole 0.2
via 3.3,2.2 diameter 0.5 hole 0.2
via -3.3,1.1 diameter 0.5 hole 0.2
via -2.2,1.1 diameter 0.5 hole 0.2
via -1.1,1.1 diameter 0.5 hole 0.2
via 0,1.1 diameter 0.5 hole 0.2
via 1.1,1.1 diameter 0.5 hole 0.2
via 2.2,1.1 diameter 0.5 hole 0.2
via 3.3,1.1 diameter 0.5 hole 0.2
via -3.3,0 diameter 0.5 hole 0.2
via -2.2,0 diameter 0.5 hole 0.2
via -1.1,0 diameter 0.5 hole 0.2
via 0,0 diameter 0.5 hole 0.2
via 1.1,0 diameter 0.5 hole 0.2
via 2.2,0 diameter 0.5 hole 0.2
via 3.3,0 diameter 0.5 hole 0.2
via -3.3,-1.1 diameter 0.5 hole 0.2
via -2.2,-1.1 diameter 0.5 hole 0.2
via -1.1,-1.1 diameter 0.5 hole 0.2
via 0,-1.1 diameter 0.5 hole 0.2
via 1.1,-1.1 diameter 0.5 hole 0.2
via 2.2,-1.1 diameter 0.5 hole 0.2
via 3.3,-1.1 diameter 0.5 hole 0.2
via -3.3,-2.2 diameter 0.5 hole 0.2
via -2.2,-2.2 diameter 0.5 hole 0.2
via -1.1,-2.2 diameter 0.5 hole 0.2
via 0,-2.2 diameter 0.5 hole 0.2
via 1.1,-2.2 diameter 0.5 hole 0.2
via 2.2,-2.2 diameter 0.5 hole 0.2
via 3.3,-2.2 diameter 0.5 hole 0.2
via -3.3,-3.3 diameter 0.5 hole 0.2
via -2.2,-3.3 diameter 0.5 hole 0.2
via -1.1,-3.3 diameter 0.5 hole 0.2
via 0,-3.3 diameter 0.5 hole 0.2
via 1.1,-3.3 diameter 0.5 hole 0.2
via 2.2,-3.3 diameter 0.5 hole 0.2
via 3.3,-3.3 diameter 0.5 hole 0.2
Top Overlay:
  circle w0.25: c-5.375,4.575 r0.125
  lines w0.2: -4.725,-4.275 -4.725,-4.725 -4.275,-4.725 ; -4.725,4.275 -4.725,4.725 -4.275,4.725 ; 4.275,-4.725 4.725,-4.725 4.725,-4.275 ; 4.275,4.725 4.725,4.725 4.725,4.275
Mechanical 13:
  circle w0.1: c-3.675,3.675 r0.5
  lines w0.1: -4.575,-4.575 -4.575,4.575 4.575,4.575 4.575,-4.575 -4.575,-4.575
Mechanical 15:
  lines w0.05: -5.15,-5.15 -5.15,5.15 5.15,5.15 5.15,-5.15 -5.15,-5.15
  lines w0.1: -0.5,0 0.5,0 ; 0,-0.5 0,0.5
3D body: height 1, standoff 0, extent -4.575,-4.575 4.575,4.575

## 100A_L [mm] "Thin QFP, 100-Leads, Body 14x14mm, Pitch 0.5mm, IPC High Density"
height 1.2
pads (100):
  oval 1.55x0.25 smd: 1(-7.525,6) 2(-7.525,5.5) 3(-7.525,5) 4(-7.525,4.5) 5(-7.525,4) 6(-7.525,3.5) 7(-7.525,3) 8(-7.525,2.5) 9(-7.525,2) 10(-7.525,1.5) 11(-7.525,1) 12(-7.525,0.5) 13(-7.525,0) 14(-7.525,-0.5) 15(-7.525,-1) 16(-7.525,-1.5) 17(-7.525,-2) 18(-7.525,-2.5) 19(-7.525,-3) 20(-7.525,-3.5) 21(-7.525,-4) 22(-7.525,-4.5) 23(-7.525,-5) 24(-7.525,-5.5) 25(-7.525,-6) 51(7.525,-6) 52(7.525,-5.5) 53(7.525,-5) 54(7.525,-4.5) 55(7.525,-4) 56(7.525,-3.5) 57(7.525,-3) 58(7.525,-2.5) 59(7.525,-2) 60(7.525,-1.5) 61(7.525,-1) 62(7.525,-0.5) 63(7.525,0) 64(7.525,0.5) 65(7.525,1) 66(7.525,1.5) 67(7.525,2) 68(7.525,2.5) 69(7.525,3) 70(7.525,3.5) 71(7.525,4) 72(7.525,4.5) 73(7.525,5) 74(7.525,5.5) 75(7.525,6)
  oval 0.25x1.55 smd: 26(-6,-7.525) 27(-5.5,-7.525) 28(-5,-7.525) 29(-4.5,-7.525) 30(-4,-7.525) 31(-3.5,-7.525) 32(-3,-7.525) 33(-2.5,-7.525) 34(-2,-7.525) 35(-1.5,-7.525) 36(-1,-7.525) 37(-0.5,-7.525) 38(0,-7.525) 39(0.5,-7.525) 40(1,-7.525) 41(1.5,-7.525) 42(2,-7.525) 43(2.5,-7.525) 44(3,-7.525) 45(3.5,-7.525) 46(4,-7.525) 47(4.5,-7.525) 48(5,-7.525) 49(5.5,-7.525) 50(6,-7.525) 76(6,7.525) 77(5.5,7.525) 78(5,7.525) 79(4.5,7.525) 80(4,7.525) 81(3.5,7.525) 82(3,7.525) 83(2.5,7.525) 84(2,7.525) 85(1.5,7.525) 86(1,7.525) 87(0.5,7.525) 88(0,7.525) 89(-0.5,7.525) 90(-1,7.525) 91(-1.5,7.525) 92(-2,7.525) 93(-2.5,7.525) 94(-3,7.525) 95(-3.5,7.525) 96(-4,7.525) 97(-4.5,7.525) 98(-5,7.525) 99(-5.5,7.525) 100(-6,7.525)
Top Overlay:
  circle w0.25: c-7.525,6.675 r0.125
  circle w0.6: c-5.35,5.35 r0.3
  lines w0.2: -6.35,-6.35 -6.35,6.35 6.35,6.35 6.35,-6.35 -6.35,-6.35
Mechanical 13:
  circle w0.1: c-6.1,6.1 r0.5
  lines w0.1: -7,-7 -7,7 7,7 7,-7 -7,-7
Mechanical 15:
  lines w0.05: -8.4,-8.4 -8.4,8.4 8.4,8.4 8.4,-8.4 -8.4,-8.4
  lines w0.1: -0.5,0 0.5,0 ; 0,-0.5 0,0.5
3D body: height 1.2, standoff 0, extent -7,-7 7,7

## 100A_M [mm] "Thin QFP, 100-Leads, Body 14x14mm, Pitch 0.5mm, IPC Low Density"
height 1.2
pads (100):
  oval 2.1x0.3 smd: 1(-7.6,6) 2(-7.6,5.5) 3(-7.6,5) 4(-7.6,4.5) 5(-7.6,4) 6(-7.6,3.5) 7(-7.6,3) 8(-7.6,2.5) 9(-7.6,2) 10(-7.6,1.5) 11(-7.6,1) 12(-7.6,0.5) 13(-7.6,0) 14(-7.6,-0.5) 15(-7.6,-1) 16(-7.6,-1.5) 17(-7.6,-2) 18(-7.6,-2.5) 19(-7.6,-3) 20(-7.6,-3.5) 21(-7.6,-4) 22(-7.6,-4.5) 23(-7.6,-5) 24(-7.6,-5.5) 25(-7.6,-6) 51(7.6,-6) 52(7.6,-5.5) 53(7.6,-5) 54(7.6,-4.5) 55(7.6,-4) 56(7.6,-3.5) 57(7.6,-3) 58(7.6,-2.5) 59(7.6,-2) 60(7.6,-1.5) 61(7.6,-1) 62(7.6,-0.5) 63(7.6,0) 64(7.6,0.5) 65(7.6,1) 66(7.6,1.5) 67(7.6,2) 68(7.6,2.5) 69(7.6,3) 70(7.6,3.5) 71(7.6,4) 72(7.6,4.5) 73(7.6,5) 74(7.6,5.5) 75(7.6,6)
  oval 0.3x2.1 smd: 26(-6,-7.6) 27(-5.5,-7.6) 28(-5,-7.6) 29(-4.5,-7.6) 30(-4,-7.6) 31(-3.5,-7.6) 32(-3,-7.6) 33(-2.5,-7.6) 34(-2,-7.6) 35(-1.5,-7.6) 36(-1,-7.6) 37(-0.5,-7.6) 38(0,-7.6) 39(0.5,-7.6) 40(1,-7.6) 41(1.5,-7.6) 42(2,-7.6) 43(2.5,-7.6) 44(3,-7.6) 45(3.5,-7.6) 46(4,-7.6) 47(4.5,-7.6) 48(5,-7.6) 49(5.5,-7.6) 50(6,-7.6) 76(6,7.6) 77(5.5,7.6) 78(5,7.6) 79(4.5,7.6) 80(4,7.6) 81(3.5,7.6) 82(3,7.6) 83(2.5,7.6) 84(2,7.6) 85(1.5,7.6) 86(1,7.6) 87(0.5,7.6) 88(0,7.6) 89(-0.5,7.6) 90(-1,7.6) 91(-1.5,7.6) 92(-2,7.6) 93(-2.5,7.6) 94(-3,7.6) 95(-3.5,7.6) 96(-4,7.6) 97(-4.5,7.6) 98(-5,7.6) 99(-5.5,7.6) 100(-6,7.6)
Top Overlay:
  circle w0.6: c-5.15,5.15 r0.3
  circle w0.25: c-7.6,6.7 r0.125
  lines w0.2: -6.15,-6.15 6.15,-6.15 6.15,6.15 -6.15,6.15 -6.15,-6.15
Mechanical 13:
  circle w0.1: c-6.1,6.1 r0.5
  lines w0.1: -7,-7 7,-7 7,7 -7,7 -7,-7
Mechanical 15:
  lines w0.05: -9.15,-9.15 9.15,-9.15 9.15,9.15 -9.15,9.15 -9.15,-9.15
  lines w0.1: -0.5,0 0.5,0 ; 0,-0.5 0,0.5
3D body: height 1.2, standoff 0, extent -7,-7 7,7

## 100A_N [mm] "Thin QFP, 100-Leads, Body 14x14mm, Pitch 0.5mm, IPC Medium Density"
height 1.2
pads (100):
  oval 1.8x0.291 smd mask+0.08: 1(-7.55,6) 2(-7.55,5.5) 3(-7.55,5) 4(-7.55,4.5) 5(-7.55,4) 6(-7.55,3.5) 7(-7.55,3) 8(-7.55,2.5) 9(-7.55,2) 10(-7.55,1.5) 11(-7.55,1) 12(-7.55,0.5) 13(-7.55,0) 14(-7.55,-0.5) 15(-7.55,-1) 16(-7.55,-1.5) 17(-7.55,-2) 18(-7.55,-2.5) 19(-7.55,-3) 20(-7.55,-3.5) 21(-7.55,-4) 22(-7.55,-4.5) 23(-7.55,-5) 24(-7.55,-5.5) 25(-7.55,-6) 51(7.55,-6) 52(7.55,-5.5) 53(7.55,-5) 54(7.55,-4.5) 55(7.55,-4) 56(7.55,-3.5) 57(7.55,-3) 58(7.55,-2.5) 59(7.55,-2) 60(7.55,-1.5) 61(7.55,-1) 62(7.55,-0.5) 63(7.55,0) 64(7.55,0.5) 65(7.55,1) 66(7.55,1.5) 67(7.55,2) 68(7.55,2.5) 69(7.55,3) 70(7.55,3.5) 71(7.55,4) 72(7.55,4.5) 73(7.55,5) 74(7.55,5.5) 75(7.55,6)
  oval 0.291x1.8 smd mask+0.08: 26(-6,-7.55) 27(-5.5,-7.55) 28(-5,-7.55) 29(-4.5,-7.55) 30(-4,-7.55) 31(-3.5,-7.55) 32(-3,-7.55) 33(-2.5,-7.55) 34(-2,-7.55) 35(-1.5,-7.55) 36(-1,-7.55) 37(-0.5,-7.55) 38(0,-7.55) 39(0.5,-7.55) 40(1,-7.55) 41(1.5,-7.55) 42(2,-7.55) 43(2.5,-7.55) 44(3,-7.55) 45(3.5,-7.55) 46(4,-7.55) 47(4.5,-7.55) 48(5,-7.55) 49(5.5,-7.55) 50(6,-7.55) 76(6,7.55) 77(5.5,7.55) 78(5,7.55) 79(4.5,7.55) 80(4,7.55) 81(3.5,7.55) 82(3,7.55) 83(2.5,7.55) 84(2,7.55) 85(1.5,7.55) 86(1,7.55) 87(0.5,7.55) 88(0,7.55) 89(-0.5,7.55) 90(-1,7.55) 91(-1.5,7.55) 92(-2,7.55) 93(-2.5,7.55) 94(-3,7.55) 95(-3.5,7.55) 96(-4,7.55) 97(-4.5,7.55) 98(-5,7.55) 99(-5.5,7.55) 100(-6,7.55)
Top Overlay:
  circle w0.6: c-5.25,5.25 r0.3
  circle w0.25: c-7.55,6.7 r0.125
  lines w0.2: -6.25,-6.25 6.25,-6.25 6.25,6.25 -6.25,6.25 -6.25,-6.25
Mechanical 13:
  circle w0.1: c-6.1,6.1 r0.5
  lines w0.1: -7,-7 7,-7 7,7 -7,7 -7,-7
Mechanical 15:
  lines w0.05: -8.7,-8.7 8.7,-8.7 8.7,8.7 -8.7,8.7 -8.7,-8.7
  lines w0.1: -0.5,0 0.5,0 ; 0,-0.5 0,0.5
3D body: height 1.2, standoff 0, extent -7,-7 7,7

## 100C1 [mm] "BGA, 100-Leads, Body 9x9mm, Pitch 0.8mm"
height 1.2
pads (100):
  round 0.35 smd: A1(-3.6,3.6) A2(-2.8,3.6) A3(-2,3.6) A4(-1.2,3.6) A5(-0.4,3.6) A6(0.4,3.6) A7(1.2,3.6) A8(2,3.6) A9(2.8,3.6) A10(3.6,3.6) B1(-3.6,2.8) B2(-2.8,2.8) B3(-2,2.8) B4(-1.2,2.8) B5(-0.4,2.8) B6(0.4,2.8) B7(1.2,2.8) B8(2,2.8) B9(2.8,2.8) B10(3.6,2.8) C1(-3.6,2) C2(-2.8,2) C3(-2,2) C4(-1.2,2) C5(-0.4,2) C6(0.4,2) C7(1.2,2) C8(2,2) C9(2.8,2) C10(3.6,2) D1(-3.6,1.2) D2(-2.8,1.2) D3(-2,1.2) D4(-1.2,1.2) D5(-0.4,1.2) D6(0.4,1.2) D7(1.2,1.2) D8(2,1.2) D9(2.8,1.2) D10(3.6,1.2) E1(-3.6,0.4) E2(-2.8,0.4) E3(-2,0.4) E4(-1.2,0.4) E5(-0.4,0.4) E6(0.4,0.4) E7(1.2,0.4) E8(2,0.4) E9(2.8,0.4) E10(3.6,0.4) F1(-3.6,-0.4) F2(-2.8,-0.4) F3(-2,-0.4) F4(-1.2,-0.4) F5(-0.4,-0.4) F6(0.4,-0.4) F7(1.2,-0.4) F8(2,-0.4) F9(2.8,-0.4) F10(3.6,-0.4) G1(-3.6,-1.2) G2(-2.8,-1.2) G3(-2,-1.2) G4(-1.2,-1.2) G5(-0.4,-1.2) G6(0.4,-1.2) G7(1.2,-1.2) G8(2,-1.2) G9(2.8,-1.2) G10(3.6,-1.2) H1(-3.6,-2) H2(-2.8,-2) H3(-2,-2) H4(-1.2,-2) H5(-0.4,-2) H6(0.4,-2) H7(1.2,-2) H8(2,-2) H9(2.8,-2) H10(3.6,-2) J1(-3.6,-2.8) J2(-2.8,-2.8) J3(-2,-2.8) J4(-1.2,-2.8) J5(-0.4,-2.8) J6(0.4,-2.8) J7(1.2,-2.8) J8(2,-2.8) J9(2.8,-2.8) J10(3.6,-2.8) K1(-3.6,-3.6) K2(-2.8,-3.6) K3(-2,-3.6) K4(-1.2,-3.6) K5(-0.4,-3.6) K6(0.4,-3.6) K7(1.2,-3.6) K8(2,-3.6) K9(2.8,-3.6) K10(3.6,-3.6)
Top Overlay:
  circle w0.25: c-5.15,4.35 r0.125
  region: -3.584,4.5 -4.5,3.584 -4.5,4.5
  lines w0.2: -4.5,3.584 -3.584,4.5 ; -4.5,-4.5 4.5,-4.5 4.5,4.5 -4.5,4.5 -4.5,-4.5
Mechanical 13:
  lines w0.1: -4.5,-4.5 4.5,-4.5 4.5,4.5 -4.5,4.5 -4.5,-4.5
Mechanical 15:
  lines w0.05: -5.5,-5.5 5.5,-5.5 5.5,5.5 -5.5,5.5 -5.5,-5.5
  lines w0.1: -0.5,0 0.5,0 ; 0,-0.5 0,0.5
3D body: height 1.2, standoff 0, extent -4.499,-4.499 4.499,4.499

## QFN32_L [mm] "QFN, 32-Leads, Body 7x7mm, Pitch 0.65mm, Thermal Pad 5.3x5.3mm, IPC High Density"
height 1
pads (33):
  oval 0.95x0.3 smd: 1(-3.325,2.275) 2(-3.325,1.625) 3(-3.325,0.975) 4(-3.325,0.325) 5(-3.325,-0.325) 6(-3.325,-0.975) 7(-3.325,-1.625) 8(-3.325,-2.275) 17(3.325,-2.275) 18(3.325,-1.625) 19(3.325,-0.975) 20(3.325,-0.325) 21(3.325,0.325) 22(3.325,0.975) 23(3.325,1.625) 24(3.325,2.275)
  oval 0.3x0.95 smd: 9(-2.275,-3.325) 10(-1.625,-3.325) 11(-0.975,-3.325) 12(-0.325,-3.325) 13(0.325,-3.325) 14(0.975,-3.325) 15(1.625,-3.325) 16(2.275,-3.325) 25(2.275,3.325) 26(1.625,3.325) 27(0.975,3.325) 28(0.325,3.325) 29(-0.325,3.325) 30(-0.975,3.325) 31(-1.625,3.325) 32(-2.275,3.325)
  rect 5.3x5.3 smd: 33(0,0)
via -2.2,2.2 diameter 0.5 hole 0.2
via -1.1,2.2 diameter 0.5 hole 0.2
via 0,2.2 diameter 0.5 hole 0.2
via 1.1,2.2 diameter 0.5 hole 0.2
via 2.2,2.2 diameter 0.5 hole 0.2
via -2.2,1.1 diameter 0.5 hole 0.2
via -1.1,1.1 diameter 0.5 hole 0.2
via 0,1.1 diameter 0.5 hole 0.2
via 1.1,1.1 diameter 0.5 hole 0.2
via 2.2,1.1 diameter 0.5 hole 0.2
via -2.2,0 diameter 0.5 hole 0.2
via -1.1,0 diameter 0.5 hole 0.2
via 0,0 diameter 0.5 hole 0.2
via 1.1,0 diameter 0.5 hole 0.2
via 2.2,0 diameter 0.5 hole 0.2
via -2.2,-1.1 diameter 0.5 hole 0.2
via -1.1,-1.1 diameter 0.5 hole 0.2
via 0,-1.1 diameter 0.5 hole 0.2
via 1.1,-1.1 diameter 0.5 hole 0.2
via 2.2,-1.1 diameter 0.5 hole 0.2
via -2.2,-2.2 diameter 0.5 hole 0.2
via -1.1,-2.2 diameter 0.5 hole 0.2
via 0,-2.2 diameter 0.5 hole 0.2
via 1.1,-2.2 diameter 0.5 hole 0.2
via 2.2,-2.2 diameter 0.5 hole 0.2
Top Overlay:
  circle w0.25: c-4.375,3.575 r0.125
  lines w0.2: -3.725,-2.825 -3.725,-3.725 -2.825,-3.725 ; -3.725,2.825 -3.725,3.725 -2.825,3.725 ; 2.825,-3.725 3.725,-3.725 3.725,-2.825 ; 2.825,3.725 3.725,3.725 3.725,2.825
Mechanical 13:
  circle w0.1: c-2.675,2.675 r0.5
  lines w0.1: -3.575,-3.575 -3.575,3.575 3.575,3.575 3.575,-3.575 -3.575,-3.575
Mechanical 15:
  lines w0.05: -3.9,-3.9 -3.9,3.9 3.9,3.9 3.9,-3.9 -3.9,-3.9
  lines w0.1: -0.5,0 0.5,0 ; 0,-0.5 0,0.5
3D body: height 1, standoff 0, extent -3.575,-3.575 3.575,3.575

## QFN32_M [mm] "QFN, 32-Leads, Body 7x7mm, Pitch 0.65mm, Thermal Pad 5.3x5.3mm, IPC Low Density"
height 1
pads (33):
  oval 1.15x0.3 smd: 1(-3.425,2.275) 2(-3.425,1.625) 3(-3.425,0.975) 4(-3.425,0.325) 5(-3.425,-0.325) 6(-3.425,-0.975) 7(-3.425,-1.625) 8(-3.425,-2.275) 17(3.425,-2.275) 18(3.425,-1.625) 19(3.425,-0.975) 20(3.425,-0.325) 21(3.425,0.325) 22(3.425,0.975) 23(3.425,1.625) 24(3.425,2.275)
  oval 0.3x1.15 smd: 9(-2.275,-3.425) 10(-1.625,-3.425) 11(-0.975,-3.425) 12(-0.325,-3.425) 13(0.325,-3.425) 14(0.975,-3.425) 15(1.625,-3.425) 16(2.275,-3.425) 25(2.275,3.425) 26(1.625,3.425) 27(0.975,3.425) 28(0.325,3.425) 29(-0.325,3.425) 30(-0.975,3.425) 31(-1.625,3.425) 32(-2.275,3.425)
  rect 5.3x5.3 smd: 33(0,0)
via 2.2,-2.2 diameter 0.5 hole 0.2
via 1.1,-2.2 diameter 0.5 hole 0.2
via 0,-2.2 diameter 0.5 hole 0.2
via -1.1,-2.2 diameter 0.5 hole 0.2
via -2.2,-2.2 diameter 0.5 hole 0.2
via 2.2,-1.1 diameter 0.5 hole 0.2
via 1.1,-1.1 diameter 0.5 hole 0.2
via 0,-1.1 diameter 0.5 hole 0.2
via -1.1,-1.1 diameter 0.5 hole 0.2
via -2.2,-1.1 diameter 0.5 hole 0.2
via 2.2,0 diameter 0.5 hole 0.2
via 1.1,0 diameter 0.5 hole 0.2
via 0,0 diameter 0.5 hole 0.2
via -1.1,0 diameter 0.5 hole 0.2
via -2.2,0 diameter 0.5 hole 0.2
via 2.2,1.1 diameter 0.5 hole 0.2
via 1.1,1.1 diameter 0.5 hole 0.2
via 0,1.1 diameter 0.5 hole 0.2
via -1.1,1.1 diameter 0.5 hole 0.2
via -2.2,1.1 diameter 0.5 hole 0.2
via 2.2,2.2 diameter 0.5 hole 0.2
via 1.1,2.2 diameter 0.5 hole 0.2
via 0,2.2 diameter 0.5 hole 0.2
via -1.1,2.2 diameter 0.5 hole 0.2
via -2.2,2.2 diameter 0.5 hole 0.2
Top Overlay:
  circle w0.25: c-4.375,3.575 r0.125
  lines w0.2: -3.725,-2.825 -3.725,-3.725 -2.825,-3.725 ; -3.725,2.825 -3.725,3.725 -2.825,3.725 ; 2.825,-3.725 3.725,-3.725 3.725,-2.825 ; 2.825,3.725 3.725,3.725 3.725,2.825
Mechanical 13:
  circle w0.1: c-2.675,2.675 r0.5
  lines w0.1: -3.575,-3.575 3.575,-3.575 3.575,3.575 -3.575,3.575 -3.575,-3.575
Mechanical 15:
  lines w0.05: -4.5,-4.5 4.5,-4.5 4.5,4.5 -4.5,4.5 -4.5,-4.5
  lines w0.1: -0.5,0 0.5,0 ; 0,-0.5 0,0.5
3D body: height 1, standoff 0, extent -3.575,-3.575 3.575,3.575

## QFN32_N [mm] "QFN, 32-Leads, Body 7x7mm, Pitch 0.65mm, Thermal Pad 5.3x5.3mm, IPC Medium Density"
height 1
pads (33):
  oval 1.05x0.3 smd: 1(-3.375,2.275) 2(-3.375,1.625) 3(-3.375,0.975) 4(-3.375,0.325) 5(-3.375,-0.325) 6(-3.375,-0.975) 7(-3.375,-1.625) 8(-3.375,-2.275) 17(3.375,-2.275) 18(3.375,-1.625) 19(3.375,-0.975) 20(3.375,-0.325) 21(3.375,0.325) 22(3.375,0.975) 23(3.375,1.625) 24(3.375,2.275)
  oval 0.3x1.05 smd: 9(-2.275,-3.375) 10(-1.625,-3.375) 11(-0.975,-3.375) 12(-0.325,-3.375) 13(0.325,-3.375) 14(0.975,-3.375) 15(1.625,-3.375) 16(2.275,-3.375) 25(2.275,3.375) 26(1.625,3.375) 27(0.975,3.375) 28(0.325,3.375) 29(-0.325,3.375) 30(-0.975,3.375) 31(-1.625,3.375) 32(-2.275,3.375)
  rect 5.3x5.3 smd: 33(0,0)
via 2.2,-2.2 diameter 0.5 hole 0.2
via 1.1,-2.2 diameter 0.5 hole 0.2
via 0,-2.2 diameter 0.5 hole 0.2
via -1.1,-2.2 diameter 0.5 hole 0.2
via -2.2,-2.2 diameter 0.5 hole 0.2
via 2.2,-1.1 diameter 0.5 hole 0.2
via 1.1,-1.1 diameter 0.5 hole 0.2
via 0,-1.1 diameter 0.5 hole 0.2
via -1.1,-1.1 diameter 0.5 hole 0.2
via -2.2,-1.1 diameter 0.5 hole 0.2
via 2.2,0 diameter 0.5 hole 0.2
via 1.1,0 diameter 0.5 hole 0.2
via 0,0 diameter 0.5 hole 0.2
via -1.1,0 diameter 0.5 hole 0.2
via -2.2,0 diameter 0.5 hole 0.2
via 2.2,1.1 diameter 0.5 hole 0.2
via 1.1,1.1 diameter 0.5 hole 0.2
via 0,1.1 diameter 0.5 hole 0.2
via -1.1,1.1 diameter 0.5 hole 0.2
via -2.2,1.1 diameter 0.5 hole 0.2
via 2.2,2.2 diameter 0.5 hole 0.2
via 1.1,2.2 diameter 0.5 hole 0.2
via 0,2.2 diameter 0.5 hole 0.2
via -1.1,2.2 diameter 0.5 hole 0.2
via -2.2,2.2 diameter 0.5 hole 0.2
Top Overlay:
  circle w0.25: c-4.375,3.575 r0.125
  lines w0.2: -3.725,-2.825 -3.725,-3.725 -2.825,-3.725 ; -3.725,2.825 -3.725,3.725 -2.825,3.725 ; 2.825,-3.725 3.725,-3.725 3.725,-2.825 ; 2.825,3.725 3.725,3.725 3.725,2.825
Mechanical 13:
  circle w0.1: c-2.675,2.675 r0.5
  lines w0.1: -3.575,-3.575 3.575,-3.575 3.575,3.575 -3.575,3.575 -3.575,-3.575
Mechanical 15:
  lines w0.05: -4.15,-4.15 4.15,-4.15 4.15,4.15 -4.15,4.15 -4.15,-4.15
  lines w0.1: -0.5,0 0.5,0 ; 0,-0.5 0,0.5
3D body: height 1, standoff 0, extent -3.575,-3.575 3.575,3.575